# EAGLE library part STBC08 (library OAlib)
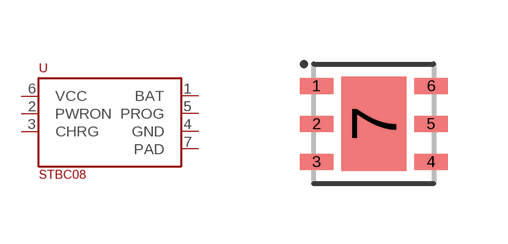
[diagram p3: symbol with the pads of DFN6; footprint DFN6]

Designator prefix U

## STBC08  [DFN6]
1  BAT
2  PWRON
3  CHRG
4  GND
5  PROG
6  VCC
7  PAD

## Footprint DFN6 (pad centres in mm)
smd 0.84 x 0.4: 1 -1.435,0.95; 2 -1.435,0; 3 -1.435,-0.95; 4 1.435,-0.95; 5 1.435,0; 6 1.435,0.95
smd 1.625 x 2.365: 7 0,0